# Altium footprint library micron.PcbLib: 4 footprints
Each footprint in its own frame and in the unit in brackets; x right, y up, seen from the top. Pads: shape width x height; smd on the part's side, far side on the other; paste and mask are expansions set on the pad; w line width, h text height; cw(c..) or ccw(c..) is an arc to the next point about the centre after c.
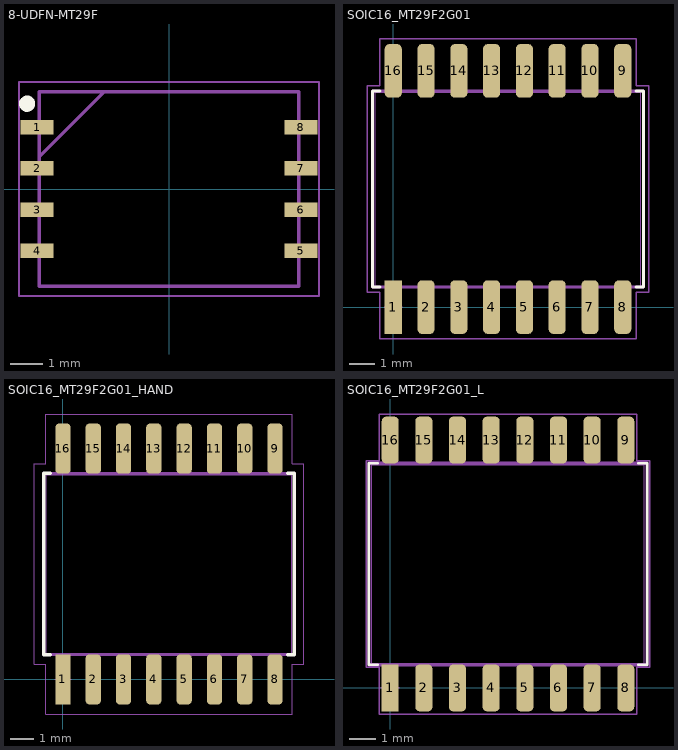
[diagram p0: the footprints below, top view; thin cyan lines are the x and y axes]

## 8-UDFN-MT29F [mil] "8-U-PDFN (8x6)"
height 0.65
pads (8):
  rect 40x17.72 smd: 1(-160,75) 2(-160,25) 3(-160,-25) 4(-160,-75) 5(160,-75) 6(160,-25) 7(160,25) 8(160,75)
Top Overlay:
  circle w9.84: c-172.24,103.54 r4.92
Assembly Top:
  lines w3.94: -157.48,39.37 -78.74,118.11 ; -157.48,-118.11 157.48,-118.11 157.48,118.11 -157.48,118.11 -157.48,-118.11
Courtyard Top:
  lines w1.97: -182.09,-129.92 182.09,-129.92 182.09,129.92 -182.09,129.92 -182.09,-129.92
3D body: height 25.59, standoff 0, extent -159.44,-118.11 159.45,118.11

## SOIC16_MT29F2G01 [mm]
height 2.65
pads (16):
  rect 0.66x2.07 smd: 1(0,0)
  rrect52% 0.66x2.07 smd: 2(1.27,0) 3(2.54,0) 4(3.81,0) 5(5.08,0) 6(6.35,0) 7(7.62,0) 8(8.89,0) 9(8.89,9.15) 10(7.62,9.15) 11(6.35,9.15) 12(5.08,9.15) 13(3.81,9.15) 14(2.54,9.15) 15(1.27,9.15) 16(0,9.15)
Top Overlay:
  lines w0.12: -0.51,0.775 -0.805,0.775 -0.805,8.375 -0.51,8.375 ; 9.4,0.775 9.695,0.775 9.695,8.375 9.4,8.375
Assembly Top:
  lines w0.12: -0.805,0.775 -0.805,8.375 9.695,8.375 9.695,0.775 -0.805,0.775
3D Top:
  lines w0.025: -0.705,0.825 -0.705,8.325 9.595,8.325 9.595,0.825 -0.705,0.825 ; -0.21,-0.575 0.21,-0.575 0.21,0.255 -0.21,0.255 -0.21,-0.575 ; -0.21,8.895 0.21,8.895 0.21,9.725 -0.21,9.725 -0.21,8.895 ; 1.06,-0.575 1.48,-0.575 1.48,0.255 1.06,0.255 1.06,-0.575 ; 1.06,8.895 1.48,8.895 1.48,9.725 1.06,9.725 1.06,8.895 ; 2.33,-0.575 2.75,-0.575 2.75,0.255 2.33,0.255 2.33,-0.575 ; 2.33,8.895 2.75,8.895 2.75,9.725 2.33,9.725 2.33,8.895 ; 3.6,-0.575 4.02,-0.575 4.02,0.255 3.6,0.255 3.6,-0.575 ; 3.6,8.895 4.02,8.895 4.02,9.725 3.6,9.725 3.6,8.895 ; 4.87,-0.575 5.29,-0.575 5.29,0.255 4.87,0.255 4.87,-0.575 ; 4.87,8.895 5.29,8.895 5.29,9.725 4.87,9.725 4.87,8.895 ; 6.14,-0.575 6.56,-0.575 6.56,0.255 6.14,0.255 6.14,-0.575 ; 6.14,8.895 6.56,8.895 6.56,9.725 6.14,9.725 6.14,8.895 ; 7.41,-0.575 7.83,-0.575 7.83,0.255 7.41,0.255 7.41,-0.575 ; 7.41,8.895 7.83,8.895 7.83,9.725 7.41,9.725 7.41,8.895 ; 8.68,-0.575 9.1,-0.575 9.1,0.255 8.68,0.255 8.68,-0.575 ; 8.68,8.895 9.1,8.895 9.1,9.725 8.68,9.725 8.68,8.895
Courtyard Top:
  circle w0.05: c0,0 r0.25
  lines w0.05: -0.35,0 0.35,0 ; 0,-0.35 0,0.35 ; -1.01,0.57 -1.01,8.58 -0.53,8.58 -0.53,10.385 9.42,10.385 9.42,8.58 9.9,8.58 9.9,0.57 9.42,0.57 9.42,-1.235 -0.53,-1.235 -0.53,0.57 -1.01,0.57
3D body: height 2.65, standoff 0, extent -0.705,-0.575 9.595,9.725

## SOIC16_MT29F2G01_HAND [mm]
height 2.65
pads (16):
  rect 0.64x2.1 smd: 1(0,0)
  rrect50% 0.64x2.1 smd: 2(1.27,0) 3(2.54,0) 4(3.81,0) 5(5.08,0) 6(6.35,0) 7(7.62,0) 8(8.89,0) 9(8.89,9.68) 10(7.62,9.68) 11(6.35,9.68) 12(5.08,9.68) 13(3.81,9.68) 14(2.54,9.68) 15(1.27,9.68) 16(0,9.68)
Top Overlay:
  lines w0.15: -0.545,1.04 -0.805,1.04 -0.805,8.64 -0.545,8.64 ; 9.435,1.04 9.695,1.04 9.695,8.64 9.435,8.64
Assembly Top:
  lines w0.12: -0.805,1.04 9.695,1.04 9.695,8.64 -0.805,8.64 -0.805,1.04
3D Top:
  lines w0.025: -0.705,1.09 9.595,1.09 9.595,8.59 -0.705,8.59 -0.705,1.09 ; -0.21,-0.31 -0.21,0.52 0.21,0.52 0.21,-0.31 -0.21,-0.31 ; -0.21,9.16 -0.21,9.99 0.21,9.99 0.21,9.16 -0.21,9.16 ; 1.06,-0.31 1.06,0.52 1.48,0.52 1.48,-0.31 1.06,-0.31 ; 1.06,9.16 1.06,9.99 1.48,9.99 1.48,9.16 1.06,9.16 ; 2.33,-0.31 2.33,0.52 2.75,0.52 2.75,-0.31 2.33,-0.31 ; 2.33,9.16 2.33,9.99 2.75,9.99 2.75,9.16 2.33,9.16 ; 3.6,-0.31 3.6,0.52 4.02,0.52 4.02,-0.31 3.6,-0.31 ; 3.6,9.16 3.6,9.99 4.02,9.99 4.02,9.16 3.6,9.16 ; 4.87,-0.31 4.87,0.52 5.29,0.52 5.29,-0.31 4.87,-0.31 ; 4.87,9.16 4.87,9.99 5.29,9.99 5.29,9.16 4.87,9.16 ; 6.14,-0.31 6.14,0.52 6.56,0.52 6.56,-0.31 6.14,-0.31 ; 6.14,9.16 6.14,9.99 6.56,9.99 6.56,9.16 6.14,9.16 ; 7.41,-0.31 7.41,0.52 7.83,0.52 7.83,-0.31 7.41,-0.31 ; 7.41,9.16 7.41,9.99 7.83,9.99 7.83,9.16 7.41,9.16 ; 8.68,-0.31 8.68,0.52 9.1,0.52 9.1,-0.31 8.68,-0.31 ; 8.68,9.16 8.68,9.99 9.1,9.99 9.1,9.16 8.68,9.16
Courtyard Top:
  circle w0.05: c0,0 r0.25
  lines w0.05: -0.35,0 0.35,0 ; 0,-0.35 0,0.35 ; -1.21,0.64 -0.72,0.64 -0.72,-1.45 9.61,-1.45 9.61,0.64 10.1,0.64 10.1,9.04 9.61,9.04 9.61,11.13 -0.72,11.13 -0.72,9.04 -1.21,9.04 -1.21,0.64
3D body: height 2.65, standoff 0, extent -0.705,-0.321 9.595,9.979

## SOIC16_MT29F2G01_L [mm]
height 2.65
pads (16):
  rect 0.64x1.77 smd: 1(0,0)
  rrect50% 0.64x1.77 smd: 2(1.27,0) 3(2.54,0) 4(3.81,0) 5(5.08,0) 6(6.35,0) 7(7.62,0) 8(8.89,0) 9(8.89,9.35) 10(7.62,9.35) 11(6.35,9.35) 12(5.08,9.35) 13(3.81,9.35) 14(2.54,9.35) 15(1.27,9.35) 16(0,9.35)
Top Overlay:
  lines w0.1: -0.47,0.875 -0.805,0.875 -0.805,8.475 -0.47,8.475 ; 9.36,0.875 9.695,0.875 9.695,8.475 9.36,8.475
Assembly Top:
  lines w0.12: -0.805,0.875 9.695,0.875 9.695,8.475 -0.805,8.475 -0.805,0.875
3D Top:
  lines w0.025: -0.705,0.925 9.595,0.925 9.595,8.425 -0.705,8.425 -0.705,0.925 ; -0.21,-0.475 -0.21,0.355 0.21,0.355 0.21,-0.475 -0.21,-0.475 ; -0.21,8.995 -0.21,9.825 0.21,9.825 0.21,8.995 -0.21,8.995 ; 1.06,-0.475 1.06,0.355 1.48,0.355 1.48,-0.475 1.06,-0.475 ; 1.06,8.995 1.06,9.825 1.48,9.825 1.48,8.995 1.06,8.995 ; 2.33,-0.475 2.33,0.355 2.75,0.355 2.75,-0.475 2.33,-0.475 ; 2.33,8.995 2.33,9.825 2.75,9.825 2.75,8.995 2.33,8.995 ; 3.6,-0.475 3.6,0.355 4.02,0.355 4.02,-0.475 3.6,-0.475 ; 3.6,8.995 3.6,9.825 4.02,9.825 4.02,8.995 3.6,8.995 ; 4.87,-0.475 4.87,0.355 5.29,0.355 5.29,-0.475 4.87,-0.475 ; 4.87,8.995 4.87,9.825 5.29,9.825 5.29,8.995 4.87,8.995 ; 6.14,-0.475 6.14,0.355 6.56,0.355 6.56,-0.475 6.14,-0.475 ; 6.14,8.995 6.14,9.825 6.56,9.825 6.56,8.995 6.14,8.995 ; 7.41,-0.475 7.41,0.355 7.83,0.355 7.83,-0.475 7.41,-0.475 ; 7.41,8.995 7.41,9.825 7.83,9.825 7.83,8.995 7.41,8.995 ; 8.68,-0.475 8.68,0.355 9.1,0.355 9.1,-0.475 8.68,-0.475 ; 8.68,8.995 8.68,9.825 9.1,9.825 9.1,8.995 8.68,8.995
Courtyard Top:
  circle w0.05: c0,0 r0.25
  lines w0.05: -0.35,0 0.35,0 ; 0,-0.35 0,0.35 ; -0.91,0.77 -0.42,0.77 -0.42,-0.985 9.31,-0.985 9.31,0.77 9.8,0.77 9.8,8.58 9.31,8.58 9.31,10.335 -0.42,10.335 -0.42,8.58 -0.91,8.58 -0.91,0.77
3D body: height 2.65, standoff 0, extent -0.705,-0.448 9.595,9.852